# Altium schematic symbol library SCH - MCU - ATMEGA - MICROCHIP AVR64DD28 SOIC28.SchLib: 1 symbol
Pins are listed as number, name and electrical type; pins without a type are passive.

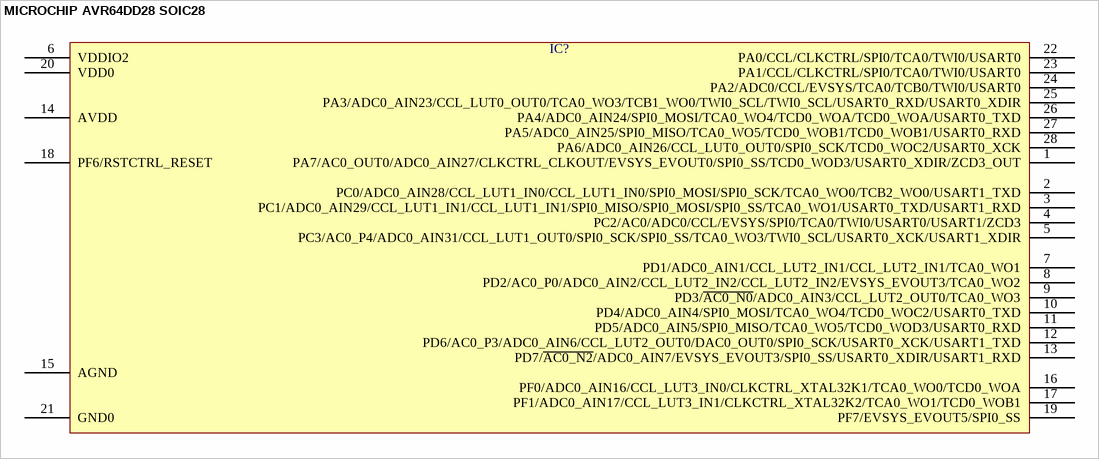
[diagram p0: symbol MICROCHIP AVR64DD28 SOIC28]

## MICROCHIP AVR64DD28 SOIC28
designator IC?  (value not drawn)
pins: 1 PA7/AC0_OUT0/ADC0_AIN27/CLKCTRL_CLKOUT/EVSYS_EVOUT0/SPI0_SS/TCD0_WOD3/USART0_XDIR/ZCD3_OUT, 2 PC0/ADC0_AIN28/CCL_LUT1_IN0/CCL_LUT1_IN0/SPI0_MOSI/SPI0_SCK/TCA0_WO0/TCB2_WO0/USART1_TXD, 3 PC1/ADC0_AIN29/CCL_LUT1_IN1/CCL_LUT1_IN1/SPI0_MISO/SPI0_MOSI/SPI0_SS/TCA0_WO1/USART0_TXD/USART1_RXD, 4 PC2/AC0/ADC0/CCL/EVSYS/SPI0/TCA0/TWI0/USART0/USART1/ZCD3, 5 PC3/AC0_P4/ADC0_AIN31/CCL_LUT1_OUT0/SPI0_SCK/SPI0_SS/TCA0_WO3/TWI0_SCL/USART0_XCK/USART1_XDIR, 6 VDDIO2, 7 PD1/ADC0_AIN1/CCL_LUT2_IN1/CCL_LUT2_IN1/TCA0_WO1, 8 PD2/AC0_P0/ADC0_AIN2/CCL_LUT2_IN2/CCL_LUT2_IN2/EVSYS_EVOUT3/TCA0_WO2, 9 PD3/~{AC0_N0}/ADC0_AIN3/CCL_LUT2_OUT0/TCA0_WO3, 10 PD4/ADC0_AIN4/SPI0_MOSI/TCA0_WO4/TCD0_WOC2/USART0_TXD, 11 PD5/ADC0_AIN5/SPI0_MISO/TCA0_WO5/TCD0_WOD3/USART0_RXD, 12 PD6/AC0_P3/ADC0_AIN6/CCL_LUT2_OUT0/DAC0_OUT0/SPI0_SCK/USART0_XCK/USART1_TXD, 13 PD7/~{AC0_N2}/ADC0_AIN7/EVSYS_EVOUT3/SPI0_SS/USART0_XDIR/USART1_RXD, 14 AVDD, 15 AGND, 16 PF0/ADC0_AIN16/CCL_LUT3_IN0/CLKCTRL_XTAL32K1/TCA0_WO0/TCD0_WOA, 17 PF1/ADC0_AIN17/CCL_LUT3_IN1/CLKCTRL_XTAL32K2/TCA0_WO1/TCD0_WOB1, 18 PF6/RSTCTRL_RESET, 19 PF7/EVSYS_EVOUT5/SPI0_SS, 20 VDD0, 21 GND0, 22 PA0/CCL/CLKCTRL/SPI0/TCA0/TWI0/USART0, 23 PA1/CCL/CLKCTRL/SPI0/TCA0/TWI0/USART0, 24 PA2/ADC0/CCL/EVSYS/TCA0/TCB0/TWI0/USART0, 25 PA3/ADC0_AIN23/CCL_LUT0_OUT0/TCA0_WO3/TCB1_WO0/TWI0_SCL/TWI0_SCL/USART0_RXD/USART0_XDIR, 26 PA4/ADC0_AIN24/SPI0_MOSI/TCA0_WO4/TCD0_WOA/TCD0_WOA/USART0_TXD, 27 PA5/ADC0_AIN25/SPI0_MISO/TCA0_WO5/TCD0_WOB1/TCD0_WOB1/USART0_RXD, 28 PA6/ADC0_AIN26/CCL_LUT0_OUT0/SPI0_SCK/TCD0_WOC2/USART0_XCK